# EAGLE library part RJ45-6 (library Batebit)
RJ45 Jack Simple RJ45, 8-pin connection - connector for common Cat5, Cat5e, and Cat6 Ethernet cables. Footprint not yet proven in production. Connector sku is PRT-00643; Breakout PCB sku is BOB-00716.
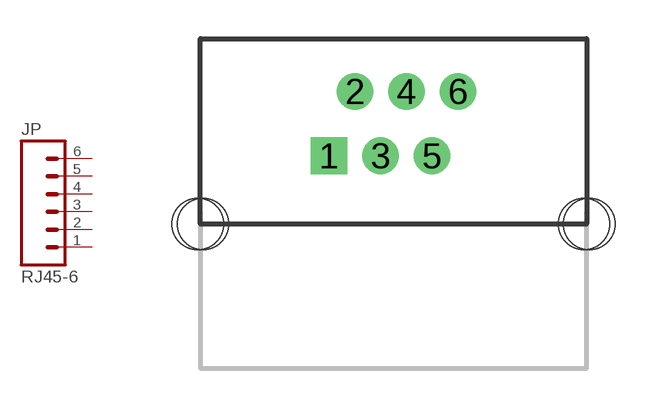
[diagram p5: symbol with the pads of RJ48-6-BR; footprint RJ48-6-BR]

Designator prefix JP

## RJ45-6PTH  [RJ48-6-BR]
1  1  pas
2  2  pas
3  3  pas
4  4  pas
5  5  pas
6  6  pas

## Footprint RJ48-6-BR (pad centres in mm)
drill 0.5 pad 1.422 square: 1 -2.62,3.17
drill 0.5 pad 1.422: 2 -1.62,5.67; 3 -0.62,3.17; 4 0.38,5.67; 5 1.38,3.17; 6 2.38,5.67
hole 2 at -7.52,0.52
hole 2 at 7.48,0.52
hole 2 at -7.72,0.52
hole 2 at 7.28,0.52